# Altium footprint library LM386.PcbLib: 1 footprints
Each footprint in its own frame and in the unit in brackets; x right, y up, seen from the top. Pads: shape width x height; smd on the part's side, far side on the other; paste and mask are expansions set on the pad; w line width, h text height; cw(c..) or ccw(c..) is an arc to the next point about the centre after c.
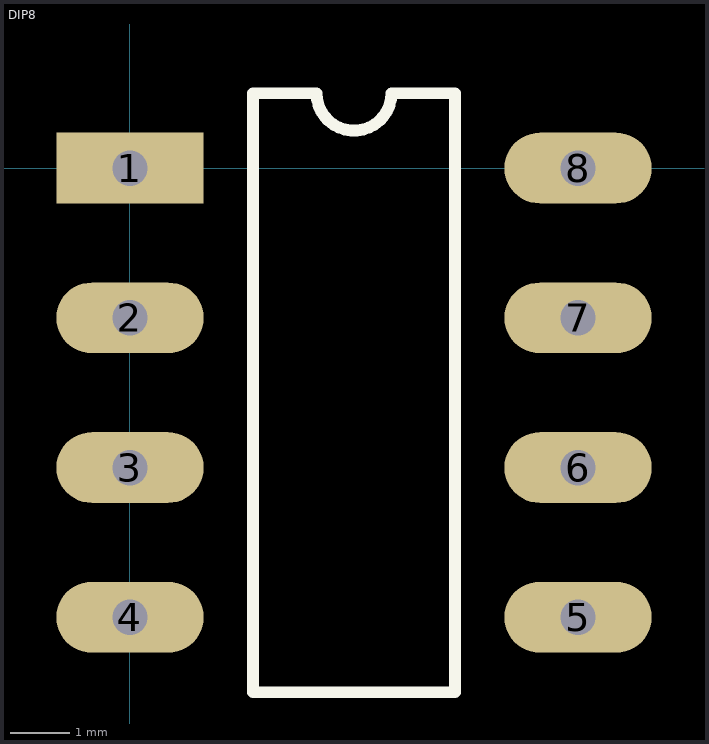
[diagram p0: the footprint, top view; thin cyan lines are the x and y axes]

## DIP8 [mm]
pads (8):
  rect 2.5x1.2 hole 0.6: 1(0,0)
  oval 2.5x1.2 hole 0.6: 2(0,-2.54) 3(0,-5.08) 4(0,-7.62) 5(7.6,-7.62) 6(7.6,-5.08) 7(7.6,-2.54) 8(7.6,0)
Top Overlay:
  lines w0.2: 2.085,-8.89 5.515,-8.89 5.515,1.27 4.435,1.27 cw(c3.8,1.27) 3.165,1.27 2.085,1.27 2.085,-8.89
3D body "DIP8.STEP": height 5.08, standoff -3.5, extent -0.125,-9.143 7.745,1.777